# Altium footprint library NT_8mil.PcbLib: 1 footprints
Each footprint in its own frame and in the unit in brackets; x right, y up, seen from the top. Pads: shape width x height; smd on the part's side, far side on the other; paste and mask are expansions set on the pad; w line width, h text height; cw(c..) or ccw(c..) is an arc to the next point about the centre after c.
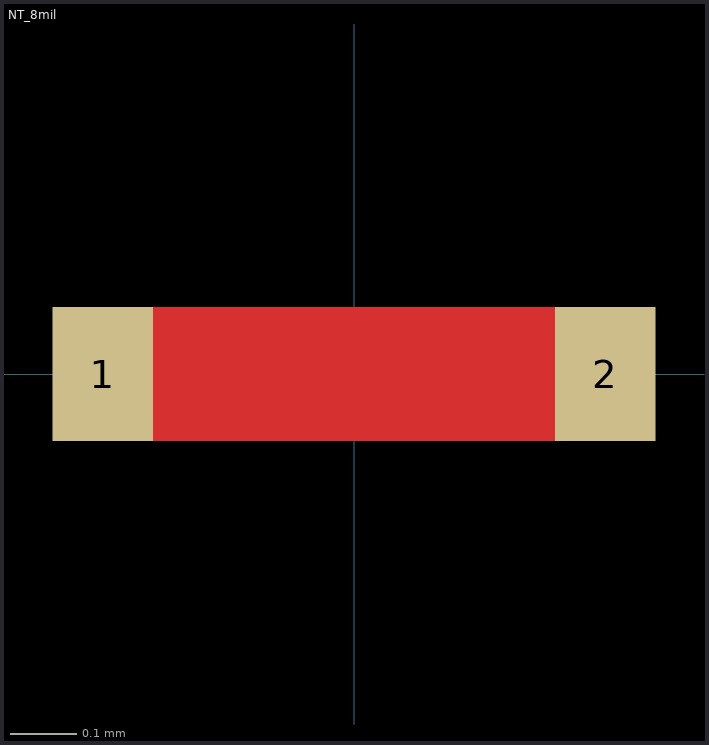
[diagram p0: the footprint, top view; thin cyan lines are the x and y axes]

## NT_8mil [mil] "8mil wide nettie"
pads (2):
  rect 6x8 smd paste+0 mask+0: 1(-15,0) 2(15,0)
Top Layer:
  rectangle: -15,-4 15,4